# Altium schematic symbol library ICs-CANTransceivers.SchLib: 2 symbols
Pins are listed as number, name and electrical type; pins without a type are passive.

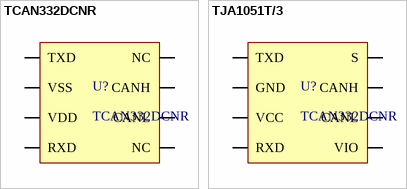
[diagram p0: symbols TCAN332DCNR to TJA1051T/3]

## TCAN332DCNR
designator U?
CAN Interface IC 3.3-V CAN Transceivers with CAN FD (Flexible Data Rate) 8-SOT-23 -40 to 125; Manufacturer: Texas Instruments; Mounting Technology: Surface Mount; PackageReference: SOT-23-8; PackageDescription: SOT23, 8-Leads; PartNumber: TCAN332DCNR
footprint SOT-23-8 (SOT23, 6-Leads, Body 2.90x2.80mm, Pitch 0.65mm, IPC Medium Density)
pins: 1 TXD, 2 VSS, 3 VDD, 4 RXD, 5 NC, 6 CANL, 7 CANH, 8 NC

## TJA1051T/3
designator U?, comment TCAN332DCNR
CAN Interface IC 5V CAN Transceivers 8-SOT-23 -40 to 150; Manufacturer: NXP Semiconductors; PartNumber: TJA1051T/3; Mounting Technology: Surface Mount; PackageReference: SOT-23-8; PackageDescription: SOT23, 8-Leads
footprint SOT-23-8 (SOT23, 6-Leads, Body 2.90x2.80mm, Pitch 0.65mm, IPC Medium Density)
pins: 1 TXD, 2 GND, 3 VCC, 4 RXD, 5 VIO, 6 CANL, 7 CANH, 8 S